# Altium schematic symbol library Miscellaneous.SchLib: 48 symbols
Pins are listed as number, name and electrical type; pins without a type are passive.

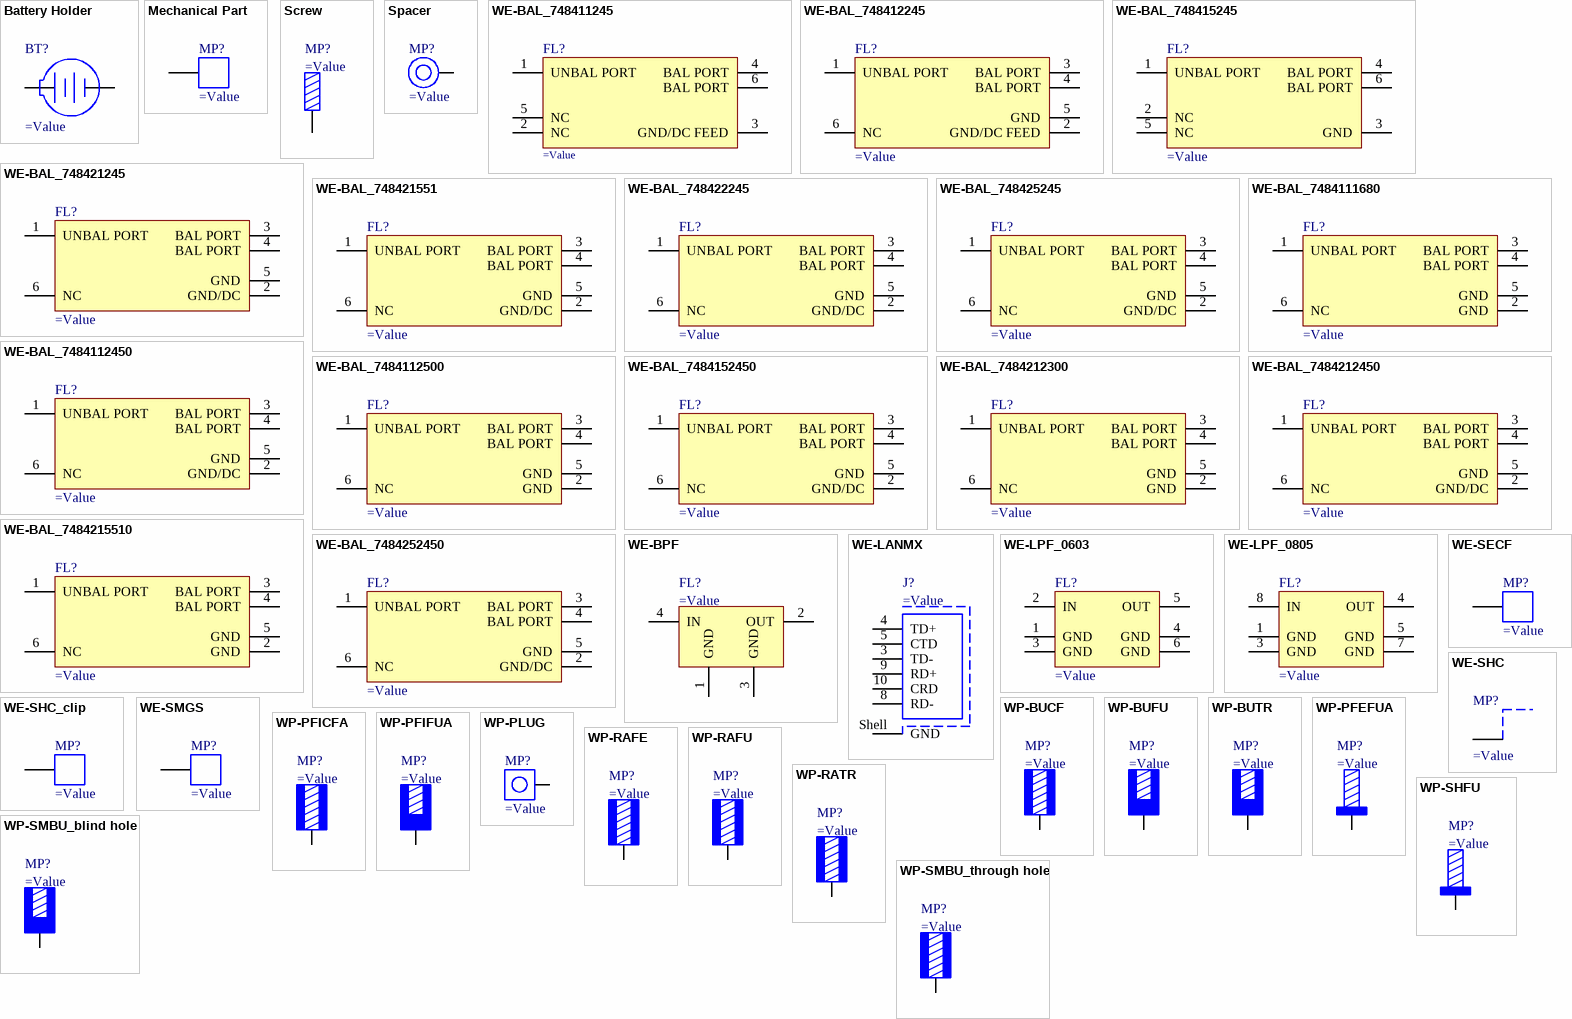
[diagram p0: symbols Battery Holder to WP-SMBU_through hole]

## Battery Holder
designator BT?
pins: 1 +, 2 -

## Mechanical Part
designator MP?
pins: 1

## Screw
designator MP?
pins: 1

## Spacer
designator MP?
pins: 1

## WE-BAL_748411245
designator FL?
pins: 1 UNBAL PORT, 2 NC, 3 GND/DC FEED (power), 4 BAL PORT, 5 NC (power), 6 BAL PORT

## WE-BAL_748412245
designator FL?
pins: 1 UNBAL PORT, 2 GND/DC FEED (power), 3 BAL PORT, 4 BAL PORT, 5 GND (power), 6 NC

## WE-BAL_748415245
designator FL?
pins: 1 UNBAL PORT, 2 NC (power), 3 GND, 4 BAL PORT, 5 NC (power), 6 BAL PORT

## WE-BAL_748421245
designator FL?
pins: 1 UNBAL PORT, 2 GND/DC (power), 3 BAL PORT, 4 BAL PORT, 5 GND (power), 6 NC

## WE-BAL_748421551
designator FL?
pins: 1 UNBAL PORT, 2 GND/DC (power), 3 BAL PORT, 4 BAL PORT, 5 GND (power), 6 NC

## WE-BAL_748422245
designator FL?
pins: 1 UNBAL PORT, 2 GND/DC (power), 3 BAL PORT, 4 BAL PORT, 5 GND (power), 6 NC

## WE-BAL_748425245
designator FL?
pins: 1 UNBAL PORT, 2 GND/DC (power), 3 BAL PORT, 4 BAL PORT, 5 GND (power), 6 NC

## WE-BAL_7484111680
designator FL?
pins: 1 UNBAL PORT, 2 GND (power), 3 BAL PORT, 4 BAL PORT, 5 GND (power), 6 NC

## WE-BAL_7484112450
designator FL?
pins: 1 UNBAL PORT, 2 GND/DC (power), 3 BAL PORT, 4 BAL PORT, 5 GND (power), 6 NC

## WE-BAL_7484112500
designator FL?
pins: 1 UNBAL PORT, 2 GND (power), 3 BAL PORT, 4 BAL PORT, 5 GND (power), 6 NC

## WE-BAL_7484152450
designator FL?
pins: 1 UNBAL PORT, 2 GND/DC (power), 3 BAL PORT, 4 BAL PORT, 5 GND (power), 6 NC

## WE-BAL_7484212300
designator FL?
pins: 1 UNBAL PORT, 2 GND (power), 3 BAL PORT, 4 BAL PORT, 5 GND (power), 6 NC

## WE-BAL_7484212450
designator FL?
pins: 1 UNBAL PORT, 2 GND/DC (power), 3 BAL PORT, 4 BAL PORT, 5 GND (power), 6 NC

## WE-BAL_7484215510
designator FL?
pins: 1 UNBAL PORT, 2 GND (power), 3 BAL PORT, 4 BAL PORT, 5 GND (power), 6 NC

## WE-BAL_7484252450
designator FL?
pins: 1 UNBAL PORT, 2 GND/DC (power), 3 BAL PORT, 4 BAL PORT, 5 GND (power), 6 NC

## WE-BPF
designator FL?
pins: 1 GND, 2 OUT, 3 GND, 4 IN

## WE-LANMX
designator J?
pins: 3 TD-, 4 TD+, 5 CTD, 8 RD-, 9 RD+, 10 CRD, Shell GND

## WE-LPF_0603
designator FL?
pins: 1 GND, 2 IN, 3 GND, 4 GND, 5 OUT, 6 GND

## WE-LPF_0805
designator FL?
pins: 1 GND, 3 GND, 4 OUT, 5 GND, 7 GND, 8 IN

## WE-SECF
designator MP?
pins: 1

## WE-SHC
designator MP?
pins: 1

## WE-SHC_clip
designator MP?
pins: 1

## WE-SMGS
designator MP?
pins: 1

## WP-BUCF
designator MP?
pins: 1

## WP-BUFU
designator MP?
pins: 1

## WP-BUTR
designator MP?
pins: 1

## WP-PFEFUA
designator MP?
pins: 1

## WP-PFICFA
designator MP?
pins: 1

## WP-PFIFUA
designator MP?
pins: 1

## WP-PLUG
designator MP?
pins: 1

## WP-RAFE
designator MP?
pins: 1

## WP-RAFU
designator MP?
pins: 1

## WP-RATR
designator MP?
pins: 1

## WP-SHFU
designator MP?
pins: 1

## WP-SMBU_blind hole
designator MP?
pins: 1

## WP-SMBU_through hole
designator MP?
pins: 1

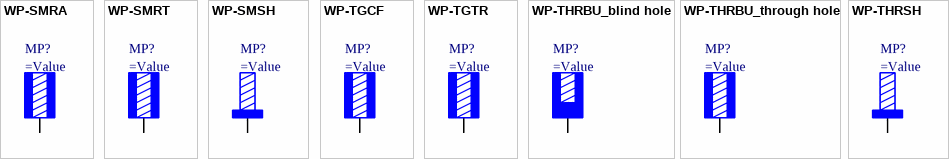
[diagram p1: symbols WP-SMRA to WP-THRSH]

## WP-SMRA
designator MP?
pins: 1

## WP-SMRT
designator MP?
pins: 1

## WP-SMSH
designator MP?
pins: 1

## WP-TGCF
designator MP?
pins: 1

## WP-TGTR
designator MP?
pins: 1

## WP-THRBU_blind hole
designator MP?
pins: 1

## WP-THRBU_through hole
designator MP?
pins: 1

## WP-THRSH
designator MP?
pins: 1